# Altium footprint library PCB.PcbLib: 3 footprints
Each footprint in its own frame and in the unit in brackets; x right, y up, seen from the top. Pads: shape width x height; smd on the part's side, far side on the other; paste and mask are expansions set on the pad; w line width, h text height; cw(c..) or ccw(c..) is an arc to the next point about the centre after c.
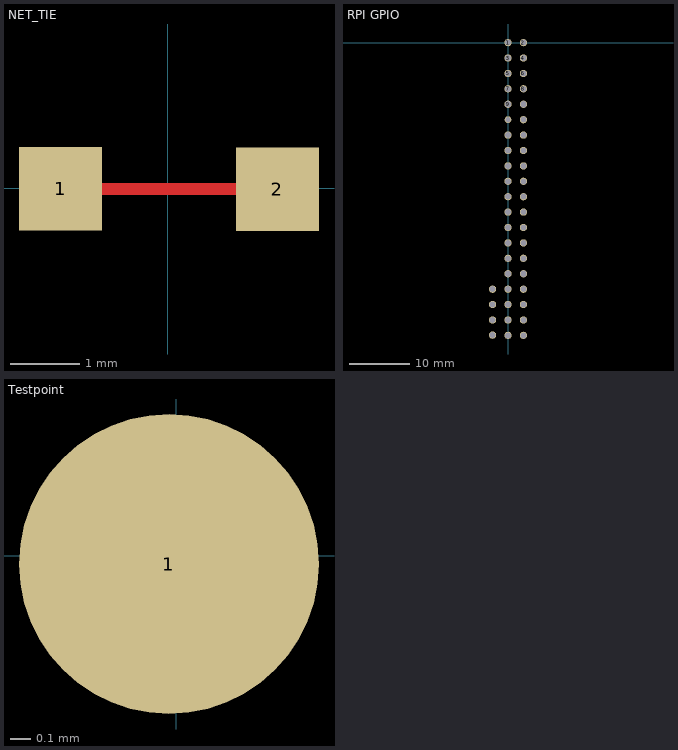
[diagram p0: the footprints below, top view; thin cyan lines are the x and y axes]

## NET_TIE [mm]
pads (2):
  rect 1.2x1.2 smd paste-3 mask-0.2: 1(-1.551,-0.01) 2(1.58,-0.016)
Top Layer:
  rectangle: -1.068,-0.097 1.114,0.072

## RPI GPIO [mm]
pads (44):
  round 1.2 hole 1 paste+0 mask+0.1: 1(0,0) 2(2.54,0) 3(0,-2.54) 4(2.54,-2.54) 5(0,-5.08) 6(2.54,-5.08) 7(0,-7.62) 8(2.54,-7.62) 9(0,-10.16) 10(2.54,-10.16) 12(2.54,-12.7) 13(0,-15.24) 14(2.54,-15.24) 15(0,-17.78) 16(2.54,-17.78) 17(0,-20.32) 18(2.54,-20.32) 19(0,-22.86) 20(2.54,-22.86) 21(0,-25.4) 22(2.54,-25.4) 23(0,-27.94) 24(2.54,-27.94) 25(0,-30.48) 26(2.54,-30.48) 27(0,-33.02) 28(2.54,-33.02) 29(0,-35.56) 30(2.54,-35.56) 31(0,-38.1) 32(2.54,-38.1) 33(0,-40.64) 34(2.54,-40.64) 35(0,-43.18) 36(2.54,-43.18) 37(0,-45.72) 38(2.54,-45.72) 39(0,-48.26) 40(2.54,-48.26) 41(-2.54,-48.222) 42(-2.54,-45.72) 43(-2.54,-43.18) 44(-2.54,-40.64)
  round 1.1 hole 0.9 paste+0 mask+0.1: 11(0,-12.7)
3D body "1x4 Male Pin Header.STEP": height 10.54, standoff -3, extent -3.79,-49.492 -1.29,-39.327
3D body "User Library-HEADER 20X2.STEP": height 10.1, standoff -1.5, extent -1.272,-49.581 3.808,1.219

## Testpoint [mm]
pads (1):
  round 1.5 smd: 1(-0.036,-0.04)